# EAGLE library part TB6560-H (library tb6560)
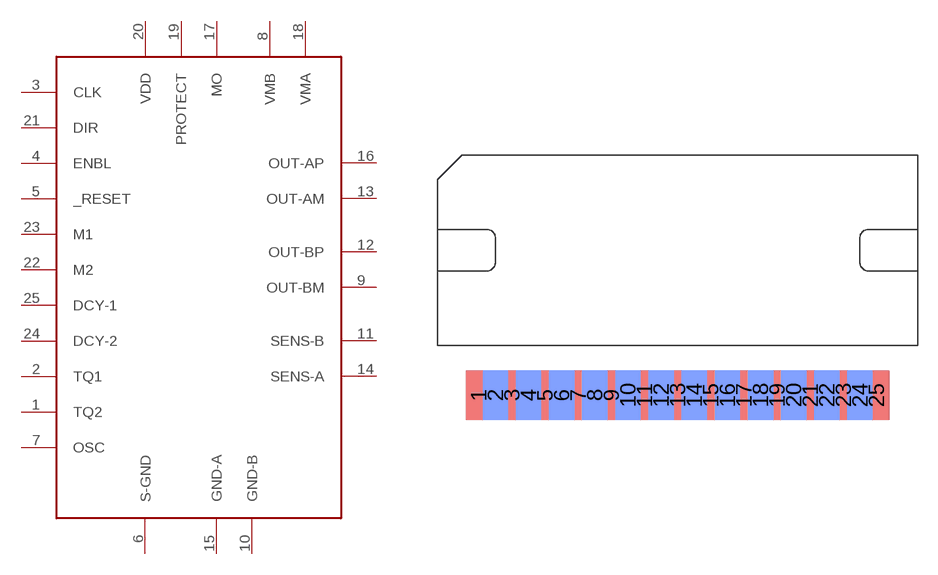
[diagram p1: symbol with the pads of ZIP25-H; footprint ZIP25-H]

Designator prefix -

## TB6560-H  [ZIP25-H]
1  TQ2
2  TQ1
3  CLK
4  ENBL
5  _RESET
6  S-GND
7  OSC
8  VMB
9  OUT-BM  out
10  GND-B
11  SENS-B
12  OUT-BP  out
13  OUT-AM  out
14  SENS-A
15  GND-A
16  OUT-AP  out
17  MO
18  VMA
19  PROTECT
20  VDD
21  DIR
22  M2
23  M1
24  DCY-2
25  DCY-1

## Footprint ZIP25-H (pad centres in mm)
Horizontal version
smd 1.93 x 3.81: 1 2.54,-3.81; 3 5.08,-3.81; 5 7.62,-3.81; 7 10.16,-3.81; 9 12.7,-3.81; 11 15.24,-3.81; 13 17.78,-3.81; 15 20.32,-3.81; 17 22.86,-3.81; 19 25.4,-3.81; 21 27.94,-3.81; 23 30.48,-3.81; 25 33.02,-3.81
smd 1.93 x 3.81 bottom: 2 3.81,-3.81; 4 6.35,-3.81; 6 8.89,-3.81; 8 11.43,-3.81; 10 13.97,-3.81; 12 16.51,-3.81; 14 19.05,-3.81; 16 21.59,-3.81; 18 24.13,-3.81; 20 26.67,-3.81; 22 29.21,-3.81; 24 31.75,-3.81